# Altium footprint library ESP-12S.PcbLib: 2 footprints
Each footprint in its own frame and in the unit in brackets; x right, y up, seen from the top. Pads: shape width x height; smd on the part's side, far side on the other; paste and mask are expansions set on the pad; w line width, h text height; cw(c..) or ccw(c..) is an arc to the next point about the centre after c.
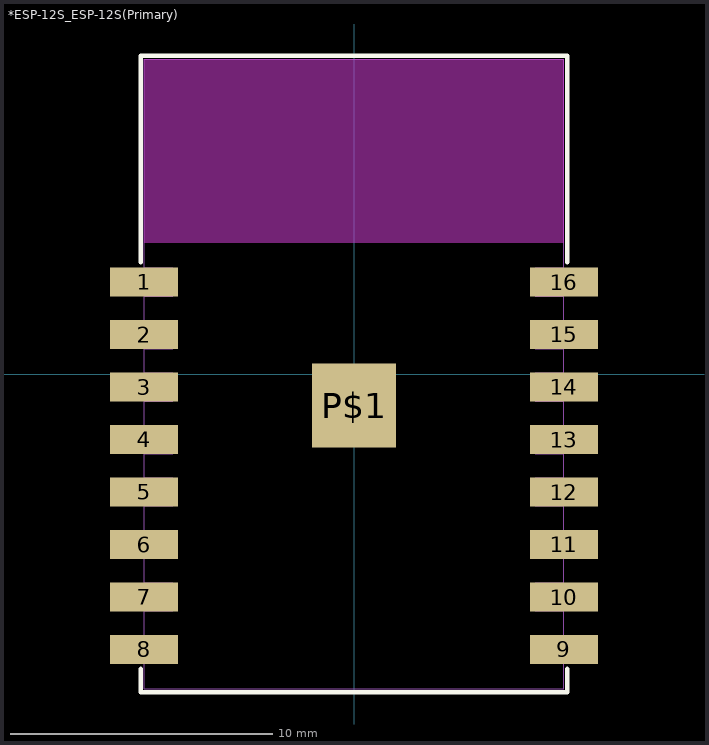
[diagram p0: the footprints below, top view; thin cyan lines are the x and y axes]

## *ESP-12S_ESP-12S(Primary) [mm]
pads (17):
  rect 2.6x1.1 smd: 1(-8,3.5) 2(-8,1.5) 3(-8,-0.5) 4(-8,-2.5) 5(-8,-4.5) 6(-8,-6.5) 7(-8,-8.5) 8(-8,-10.5) 9(8,-10.5) 10(8,-8.5) 11(8,-6.5) 12(8,-4.5) 13(8,-2.5) 14(8,-0.5) 15(8,1.5) 16(8,3.5)
  rect 3.2x3.2 smd: P$1(0,-1.2)
Top Overlay:
  lines w0.178: -8.127,-11.241 -8.127,-12.127 8.127,-12.127 8.127,-11.241 ; -8.127,4.256 -8.127,12.127 8.127,12.127 8.127,4.256
Top Paste:
  region: -1.016,-0.159 0.984,-0.159 0.984,-2.159 -1.016,-2.159
Keep-Out Layer:
  region: -8,5 8,5 8,12 -8,12
  region: 8,5 -8,5 -8,12 8,12
  region: -8,5 8,5 8,12 -8,12
  region: 8,5 -8,5 -8,12 8,12
  region: -8,5 8,5 8,12 -8,12
  region: 8,5 -8,5 -8,12 8,12
Mechanical 4:
  region: -8,-9.95 -6.9,-9.95 -6.9,-11.05 -8,-11.05
  region: -8,-7.95 -6.9,-7.95 -6.9,-9.05 -8,-9.05
  region: -8,-5.95 -6.9,-5.95 -6.9,-7.05 -8,-7.05
  region: -8,-3.95 -6.9,-3.95 -6.9,-5.05 -8,-5.05
  region: -8,-1.95 -6.9,-1.95 -6.9,-3.05 -8,-3.05
  region: -8,0.05 -6.9,0.05 -6.9,-1.05 -8,-1.05
  region: -8,2.05 -6.9,2.05 -6.9,0.95 -8,0.95
  region: -8,4.05 -6.9,4.05 -6.9,2.95 -8,2.95
  region: 6.9,-9.95 8,-9.95 8,-11.05 6.9,-11.05
  region: 6.9,-7.95 8,-7.95 8,-9.05 6.9,-9.05
  region: 6.9,-5.95 8,-5.95 8,-7.05 6.9,-7.05
  region: 6.9,-3.95 8,-3.95 8,-5.05 6.9,-5.05
  region: 6.9,-1.95 8,-1.95 8,-3.05 6.9,-3.05
  region: 6.9,0.05 8,0.05 8,-1.05 6.9,-1.05
  region: 6.9,2.05 8,2.05 8,0.95 6.9,0.95
  region: 6.9,4.05 8,4.05 8,2.95 6.9,2.95
  region: -8,-9.95 -6.9,-9.95 -6.9,-11.05 -8,-11.05
  region: -8,-7.95 -6.9,-7.95 -6.9,-9.05 -8,-9.05
  region: -8,-5.95 -6.9,-5.95 -6.9,-7.05 -8,-7.05
  region: -8,-3.95 -6.9,-3.95 -6.9,-5.05 -8,-5.05
  region: -8,-1.95 -6.9,-1.95 -6.9,-3.05 -8,-3.05
  region: -8,0.05 -6.9,0.05 -6.9,-1.05 -8,-1.05
  region: -8,2.05 -6.9,2.05 -6.9,0.95 -8,0.95
  region: -8,4.05 -6.9,4.05 -6.9,2.95 -8,2.95
  region: 6.9,-9.95 8,-9.95 8,-11.05 6.9,-11.05
  region: 6.9,-7.95 8,-7.95 8,-9.05 6.9,-9.05
  region: 6.9,-5.95 8,-5.95 8,-7.05 6.9,-7.05
  region: 6.9,-3.95 8,-3.95 8,-5.05 6.9,-5.05
  region: 6.9,-1.95 8,-1.95 8,-3.05 6.9,-3.05
  region: 6.9,0.05 8,0.05 8,-1.05 6.9,-1.05
  region: 6.9,2.05 8,2.05 8,0.95 6.9,0.95
  region: 6.9,4.05 8,4.05 8,2.95 6.9,2.95
  lines w0.003: -8,-12 -8,12 ; -8,-12 8,-12 ; -8,-12 -8,12 ; -8,-12 8,-12 ; -8,12 8,12 ; -8,12 8,12 ; 8,-12 8,12 ; 8,-12 8,12
3D body: height 0.25, standoff 0, extent 2.54,1.016 2.54,1.016
3D body "User Library-esp-12s.STEP": height -0.08, standoff -3.2, extent -7.999,-12 8.001,12

## PCBComponent_1 [mm]